# Altium footprint library AMPHENOL_RJE071880110.PcbLib: 1 footprints
Each footprint in its own frame and in the unit in brackets; x right, y up, seen from the top. Pads: shape width x height; smd on the part's side, far side on the other; paste and mask are expansions set on the pad; w line width, h text height; cw(c..) or ccw(c..) is an arc to the next point about the centre after c.
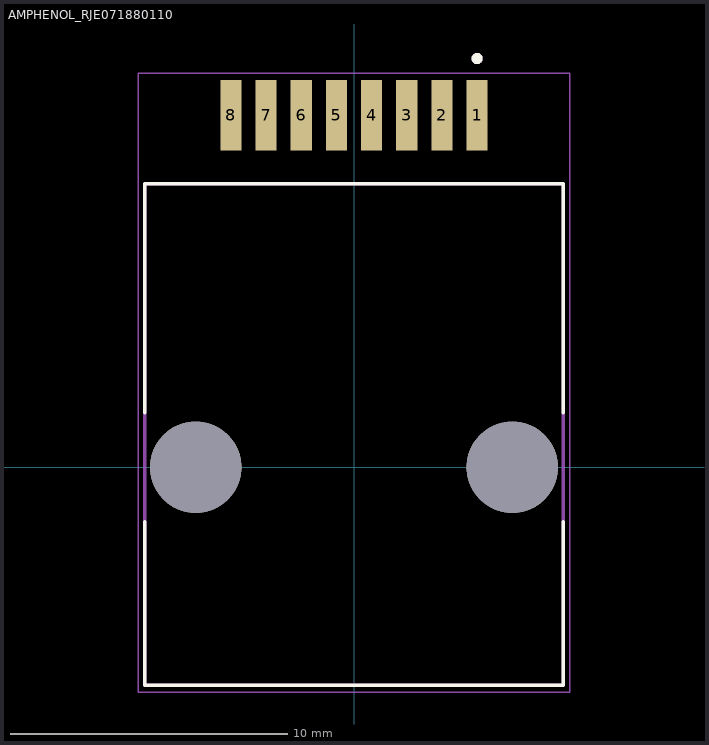
[diagram p0: the footprint, top view; thin cyan lines are the x and y axes]

## AMPHENOL_RJE071880110 [mm]
height 12.65
pads (10):
  rect 0.76x2.54 smd: 1(4.445,12.7) 2(3.175,12.7) 3(1.905,12.7) 4(0.635,12.7) 5(-0.635,12.7) 6(-1.905,12.7) 7(-3.175,12.7) 8(-4.445,12.7)
  round 3.3 hole 3.3 unplated: ""(-5.715,0) ""(5.715,0)
Top Overlay:
  circle w0.2: c4.445,14.75 r0.1
  lines w0.127: -7.545,-1.97 -7.545,-7.87 7.545,-7.87 7.545,-1.97 ; -7.545,1.97 -7.545,10.23 7.545,10.23 7.545,1.97
Mechanical 13:
  circle w0.2: c4.445,14.75 r0.1
  lines w0.127: -7.545,-7.87 7.545,-7.87 7.545,10.23 -7.545,10.23 -7.545,-7.87
Mechanical 15:
  lines w0.05: -7.795,-8.12 -7.795,14.22 7.795,14.22 7.795,-8.12 -7.795,-8.12
3D body "step_temp.STEP": height 12.65, standoff -3.05, extent -7.55,-7.87 7.55,13.03